# Altium schematic symbol library SCH - HEADERS - Samtec - FTR-110-51-S-D-06-TR.SchLib: 1 symbol
Pins are listed as number, name and electrical type; pins without a type are passive.

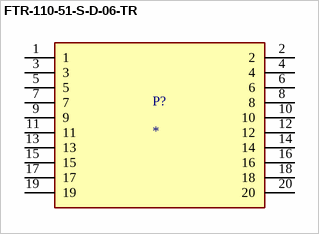
[diagram p0: symbol FTR-110-51-S-D-06-TR]

## FTR-110-51-S-D-06-TR
designator P?
Connector
pins: 1, 2, 3, 4, 5, 6, 7, 8, 9, 10, 11, 12, 13, 14, 15, 16, 17, 18, 19, 20